# EAGLE library part 6270XX21721_62701621721 (library con-wurth-board-header)
WR-BHD 1.27 mm Male Angled Box Header KIND PROPERTIES: Pitch 1.27 mm Gender:Male MATERIAL PROPERTIES: Insulator Material Nylon 9T Insulator Flammability Rating UL94 V-0 Insulator Color Black Contact Material Brass Contact Plating Gold over Nickel GENERAL INFORMATION: Operating Temperature -40 up to +105 °C Working Voltage 50 V (AC) Withstanding Voltage 500 V (AC) Contact Resistance 20 mΩ RISO 1000 MΩ CERTIFICATION: UL Approval E323964 <https://www.we-online.com/catalog/media/o375402v209%20Family_WR-BHD_6270xx21721.jpg> Details see: https://www.we-online.com/catalog/en/WR_BHD_1_27_MM_MALE_ANGLED_BOX_HEADER Created by Ella Wu 2021-08-24 2021 (C) Würth Elektronik
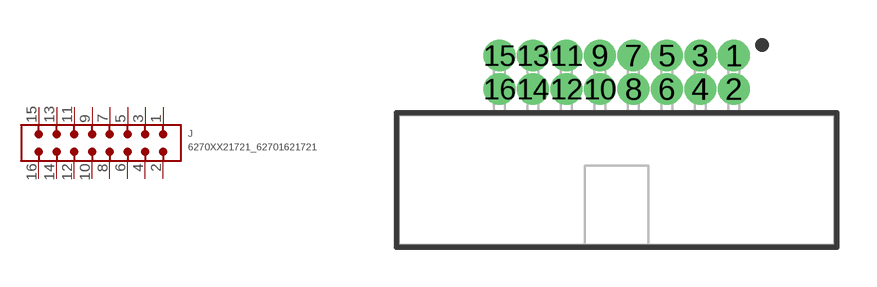
[diagram p91: symbol with the pads of 62701621721; footprint 62701621721]

Designator prefix J

## 6270XX21721_62701621721 (CONTACT-RESISTANCE: 20mOhm; DATASHEET-URL: https://www.we-online.com/redexpert/spec/62701621721?ae; GENDER: Male; IR: 1A; LENGTH: 16.51mm; MOUNT: THT; PART-NUMBER: 62701621721; PINS: 16; PITCH: 1.27mm; TYPE: Angled; VALUE: 62701621721; WORKING-VOLTAGE: 50V(AC))  [62701621721]
1  1  pas
2  2  pas
3  3  pas
4  4  pas
5  5  pas
6  6  pas
7  7  pas
8  8  pas
9  9  pas
10  10  pas
11  11  pas
12  12  pas
13  13  pas
14  14  pas
15  15  pas
16  16  pas

## Footprint 62701621721 (pad centres in mm)
WR-BHD 1,27mm Male THT Box Header Right angle, 16Pins
drill 0.7 pad 1.05: 1 4.445,4.72; 2 4.445,3.45; 3 3.175,4.72; 4 3.175,3.45; 5 1.905,4.72; 6 1.905,3.45; 7 0.635,4.72; 8 0.635,3.45; 9 -0.635,4.72; 10 -0.635,3.45; 11 -1.905,4.72; 12 -1.905,3.45; 13 -3.175,4.72; 14 -3.175,3.45; 15 -4.445,4.72; 16 -4.445,3.45